# Altium schematic symbol library DFM_Features.SchLib: 2 symbols
Pins are listed as number, name and electrical type; pins without a type are passive.

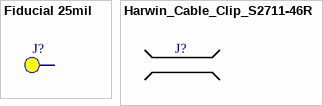
[diagram p0: symbols Fiducial 25mil to Harwin_Cable_Clip_S2711-46R]

## Fiducial 25mil
designator J?  (value not drawn)  (no BOM)
footprint Fiducial 25mil
pins: 1

## Harwin_Cable_Clip_S2711-46R
designator J?  (value not drawn)
Manufacturer: Harwin; Manufacturer Part Number: S2711-46R; Mounting Hole Diameter: 1.78 mm; Plating: Tin; TZOA PN: 296-00001; Supplier 1: Digikey; Stock 1: 239031; Pricing 1: 1=0.25, 10=0.231, 25=0.1972, 50=0.1724, 100=0.1602, 250=0.1417, 500=0.1355 (USD); Brand: Harwin; Factory Pack Quantity: 1900; Length: 8.79 mm; Material: Cupro Nickel; Product Category: Circuit Board Hardware - PCB; RoHS: Details; Product: Clips; Type: RFI Shielding; Packaging: Reel; Series: S; Tradename: EZ Boardware; ComponentLink1URL: https://datasheet.ciiva.com/30486/0900766b81270b7b-30486512.pdf; ComponentLink1Description: https://datasheet.ciiva.com/30486/0900766b81270b7b-30486512.pdf; ComponentLink2URL: https://datasheet.ciiva.com/7447/s2711-xxr-7447527.pdf; ComponentLink2Description: https://datasheet.ciiva.com/7447/s2711-xxr-7447527.pdf; Supplier Part Number 1: 952-2292-6-ND
footprint S2711-46R